# Altium integrated library 22pF Capacitor.IntLib: 1 symbol
Pins are listed as number, name and electrical type; pins without a type are passive.

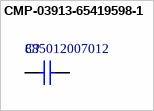
[diagram p0: symbol CMP-03913-65419598-1]

## CMP-03913-65419598-1
designator C?, comment 885012007012
885012007012 WCAP-CSGP 0805 (2012Metric) Ceramic Capacitor 0.079Lx0.049W 2.00mmx1.25mm C0G NP0 ±5% 22pF; NexarPartId: 65419598; Voltage Rating (DC): 16V; Insulation Resistance: 10GΩ; Mount: Surface Mount; Length: 2mm; Case Code (Metric): 2012; RoHS: Compliant; Case Code (Imperial): 0805; Capacitance: 22pF; Case/Package: 0805; Thickness: 711.2µm; Width: 1.25mm; Height: 600µm; Min Operating Temperature: -55°C; Voltage Rating: 16V; Max Operating Temperature: 125°C; Tolerance: 5%
footprint WCAP-CSGP_0805_L2W1.25H0.6_Reflow (Ceramic Capacitors, body 2x1.25mm)
pins: 1, 2